# Altium footprint library AEDR-8500-102.PcbLib: 1 footprints
Each footprint in its own frame and in the unit in brackets; x right, y up, seen from the top. Pads: shape width x height; smd on the part's side, far side on the other; paste and mask are expansions set on the pad; w line width, h text height; cw(c..) or ccw(c..) is an arc to the next point about the centre after c.
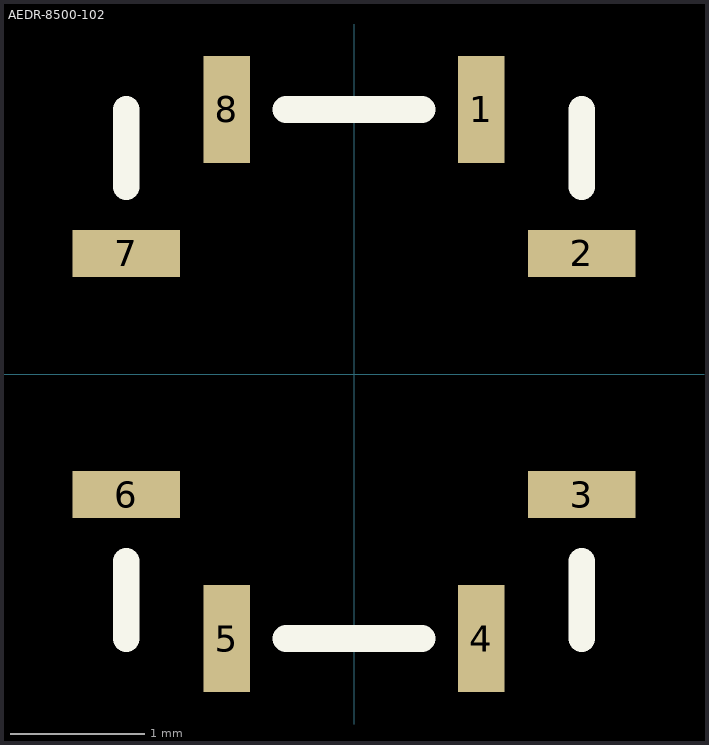
[diagram p0: the footprint, top view; thin cyan lines are the x and y axes]

## AEDR-8500-102 [mm]
pads (8):
  rect 0.35x0.8 smd: 1(0.95,1.975) 4(0.95,-1.975) 5(-0.95,-1.975) 8(-0.95,1.975)
  rect 0.8x0.35 smd: 2(1.7,0.9) 3(1.7,-0.9) 6(-1.7,-0.9) 7(-1.7,0.9)
Top Overlay:
  lines w0.2: -1.7,-1.975 -1.7,-1.397 ; -1.7,1.397 -1.7,1.975 ; -0.508,-1.975 0.508,-1.975 ; -0.508,1.975 0.508,1.975 ; 1.7,-1.975 1.7,-1.397 ; 1.7,1.397 1.7,1.975
3D body: height 1, standoff 0, extent -1.778,-2.032 1.778,2.032